# EAGLE library part TLC271CP (library tlc271cp)
OPERATIONAL AMPLIFIER
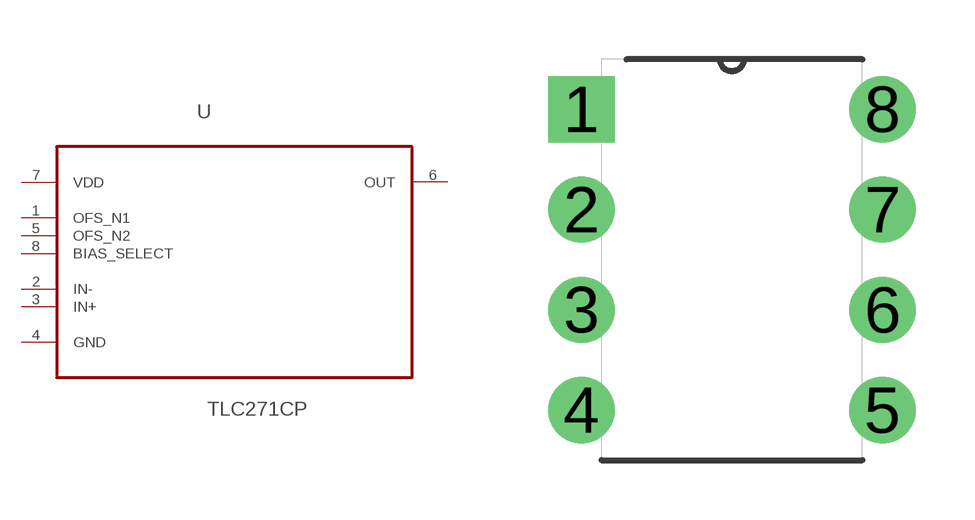
[diagram p0: symbol with the pads of DIP254P762X508-8; footprint DIP254P762X508-8]

Designator prefix U

## TLC271CP (MPN: TLC271CP; OC_FARNELL: 1103011; OC_NEWARK: 35K1199; PACKAGE: PDIP-8; SUPPLIER: Texas Instruments)  [DIP254P762X508-8]
1  OFS_N1  in
2  IN-  in
3  IN+  in
4  GND  pas
5  OFS_N2  in
6  OUT  out
7  VDD  pwr
8  BIAS_SELECT  pas

## Footprint DIP254P762X508-8 (pad centres in mm)
drill 1.118 square: 1 -7.62,7.62
drill 1.118: 2 -7.62,5.08; 3 -7.62,2.54; 4 -7.62,0; 5 0,0; 6 0,2.54; 7 0,5.08; 8 0,7.62